# EAGLE library part ADS7888 (library mes_adc)
ADS7888 serial 1.25MSPS Analog to Digital Converter (ADC)
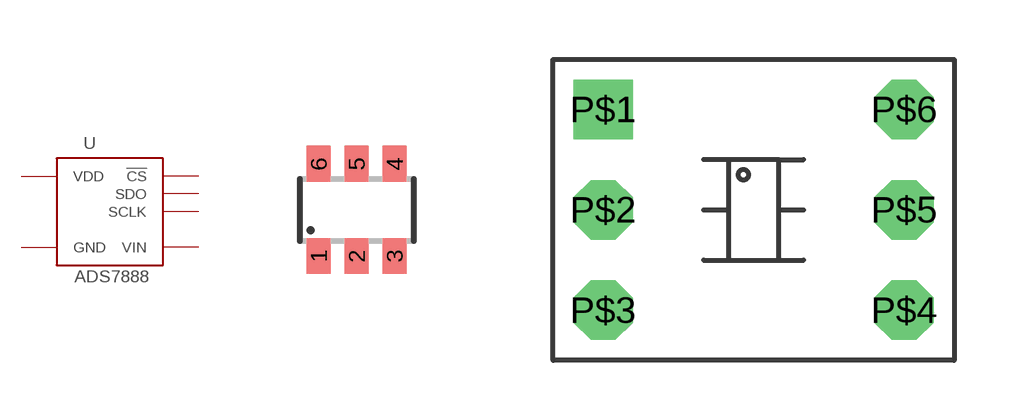
[diagram p4: symbol with the pads of SOT23-6; footprints SOT23-6, SOT-23-BREAKOUT]

Designator prefix -

## ADS7888  [SOT23-6]
1  VDD  pwr
2  GND  pwr
3  VIN  in
4  SCLK  in
5  SDO  out
6  !CS  in

## ADS7888DILBREAKOUT  [SOT-23-BREAKOUT]
P$1  VDD  pwr
P$2  GND  pwr
P$3  VIN  in
P$4  SCLK  in
P$5  SDO  out
P$6  !CS  in

## Footprint SOT23-6 (pad centres in mm)
Small Outline Transistor 6 lead
smd 0.6 x 0.9: 1 -0.95,-1.15; 2 0,-1.15; 3 0.95,-1.15; 4 0.95,1.15; 5 0,1.15; 6 -0.95,1.15

## Footprint SOT-23-BREAKOUT (pad centres in mm)
drill 1 square: P$1 -3.81,2.54
drill 1 octagon: P$2 -3.81,0; P$3 -3.81,-2.54; P$4 3.81,-2.54; P$5 3.81,0; P$6 3.81,2.54